# Altium schematic symbol library Conn_48pin_3row.SchLib: 1 symbol
Pins are listed as number, name and electrical type; pins without a type are passive.

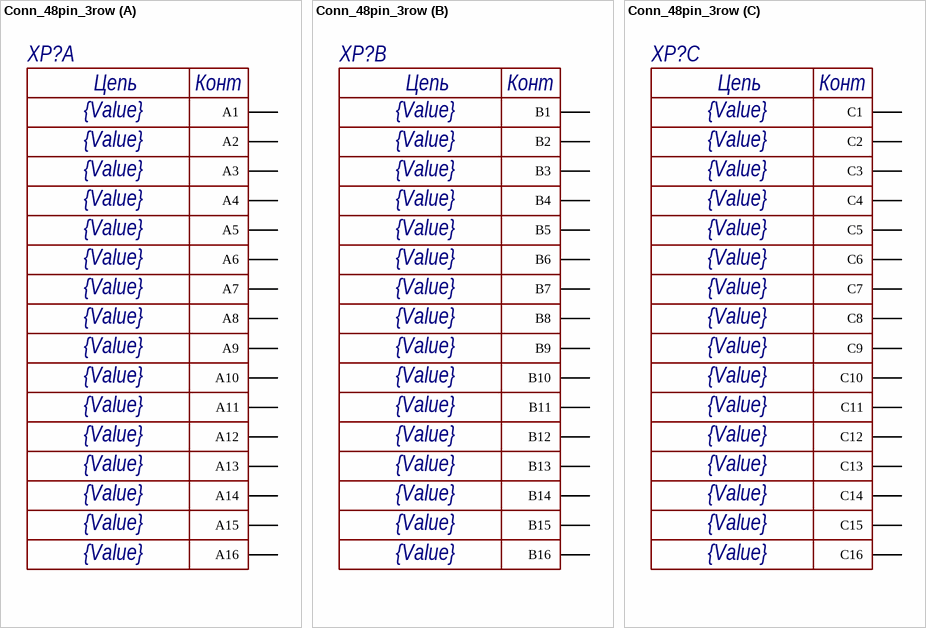
[diagram p0: symbol Conn_48pin_3row]

## Conn_48pin_3row
designator XP?  Parameter 14: {Value}
Parameter 16: {Value}; Parameter 15: {Value}; Parameter 12: {Value}; Parameter 13: {Value}; Parameter 11: {Value}; Parameter 10: {Value}; Parameter 9: {Value}; Parameter 8: {Value}; Parameter 5: {Value}; Parameter 6: {Value}; Parameter 7: {Value}; Parameter 4: {Value}; Parameter 3: {Value}; Parameter 2: {Value}; Parameter 1: {Value}
part A pins: A1, A2, A3, A4, A5, A6, A7, A8, A9, A10, A11, A12, A13, A14, A15, A16
part B pins: B1, B2, B3, B4, B5, B6, B7, B8, B9, B10, B11, B12, B13, B14, B15, B16
part C pins: C1, C2, C3, C4, C5, C6, C7, C8, C9, C10, C11, C12, C13, C14, C15, C16
part A text: Цепь; Конт
part B text: Цепь; Конт
part C text: Цепь; Конт